# Altium footprint library radar.PcbLib: 1 footprints
Each footprint in its own frame and in the unit in brackets; x right, y up, seen from the top. Pads: shape width x height; smd on the part's side, far side on the other; paste and mask are expansions set on the pad; w line width, h text height; cw(c..) or ccw(c..) is an arc to the next point about the centre after c.
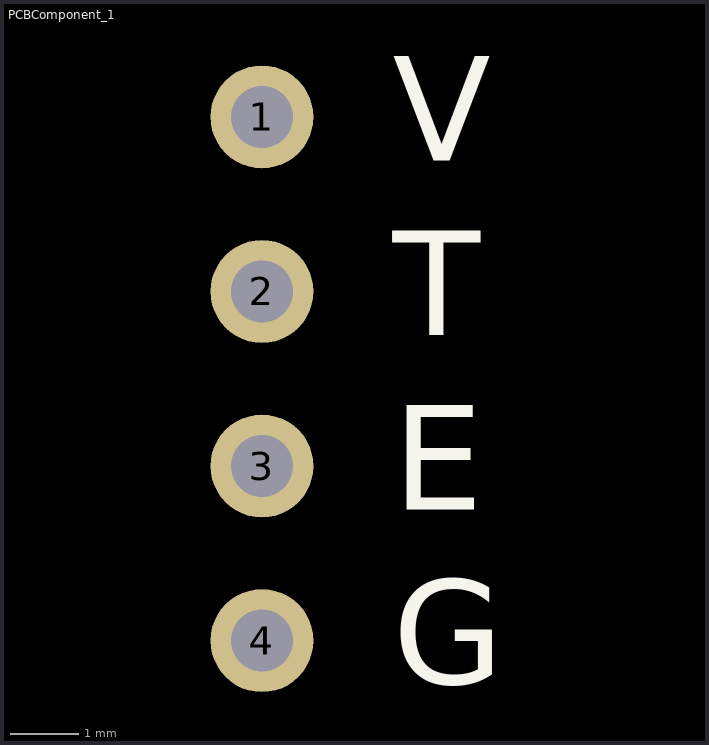
[diagram p0: the footprint, top view; thin cyan lines are the x and y axes]

## PCBComponent_1 [mm]
pads (4):
  round 1.5 hole 0.9: 1(12.7,12.7) 2(12.7,10.16) 3(12.7,7.62) 4(12.7,5.08)
Top Overlay:
  text "V" at 14.605,12.065 h1.52
  text "T" at 14.605,9.525 h1.52
  text "E" at 14.605,6.985 h1.52
  text "G" at 14.605,4.445 h1.52